# EAGLE library part RELAIS-IDEC-RR2KP (library 1A-meinLib)
Dual Coil latching Relay, 11-pin-octal base, RR2KP, IDEC
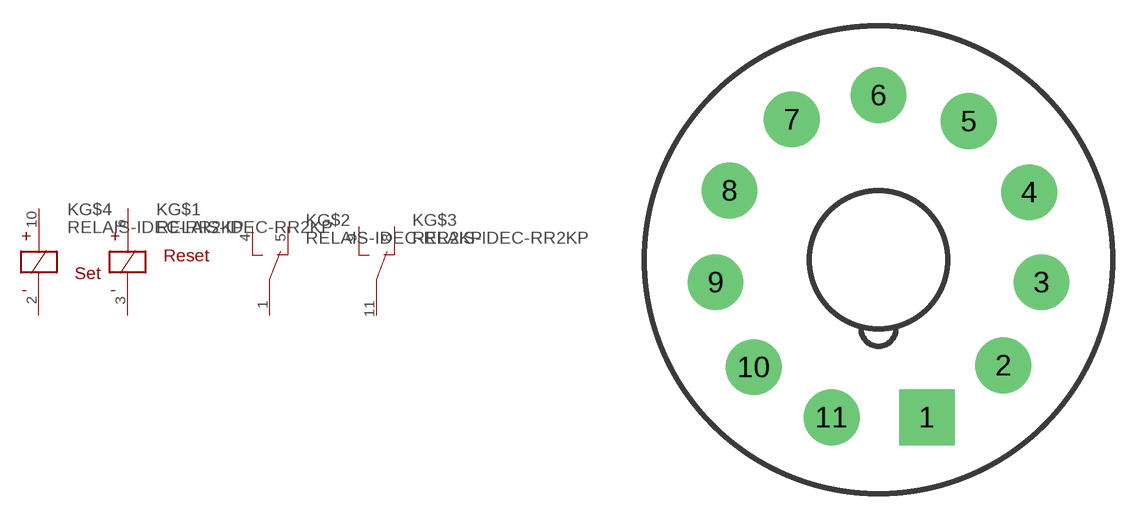
[diagram p297: symbol with the pads of RELAIS-IDEC_RR2KP; footprint RELAIS-IDEC_RR2KP]

Designator prefix K; gates G$2=RELAIS-UMSCHALTER G$3=RELAIS-UMSCHALTER G$1=REALIS-SPULE-BIPOLAR-RESET G$4=RELAIS-SPULE-BIPOLAR

## RELAIS-IDEC-RR2KP  [RELAIS-IDEC_RR2KP]
1  G$2:COM
2  G$4:SET-  pas
3  G$1:RESET-  pas
4  G$2:NO
5  G$2:NC
6  G$1:RESET+  pas
8  G$3:NC
9  G$3:NO
10  G$4:SET+  pas
11  G$3:COM

## Footprint RELAIS-IDEC_RR2KP (pad centres in mm)
Dual Coil latching Relay, 11-pin-octal base, RR2KP, IDEC
drill 2.2 square: 1 2.8,-9.1
drill 2.2 round: 2 7.2,-6.1; 3 9.4,-1.3; 4 8.7,3.9; 5 5.2,8; 6 0,9.5; 7 -5,8.1; 8 -8.6,4; 9 -9.4,-1.3; 10 -7.2,-6.2; 11 -2.7,-9.1